# Altium integrated library recom-international.IntLib: 6 symbols
Pins are listed as number, name and electrical type; pins without a type are passive.

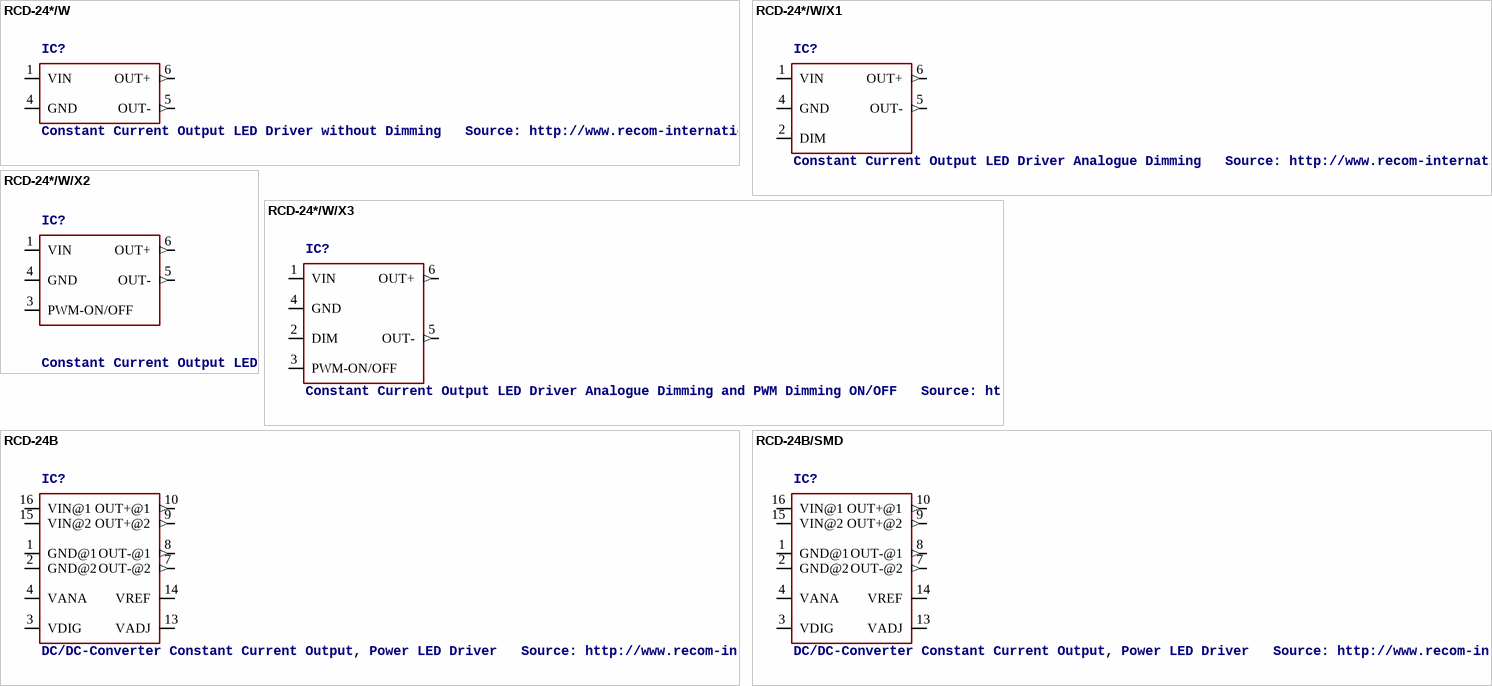
[diagram p0: symbols RCD-24*/W to RCD-24B/SMD]

## RCD-24*/W
designator IC?, comment Constant Current Output LED Driver without Dimming   Source: http://www.recom-international.de/pdf/Innoline/RCD-24.pdf
OC_FARNELL: unknown; OC_NEWARK: unknown
footprint RCD-24/W
pins: 1 VIN, 4 GND (power), 5 OUT- (out), 6 OUT+ (out)

## RCD-24*/W/X1
designator IC?, comment Constant Current Output LED Driver Analogue Dimming   Source: http://www.recom-international.de/pdf/Innoline/RCD-24.pdf
OC_FARNELL: unknown; OC_NEWARK: unknown
footprint RCD-24/W/X1
pins: 1 VIN, 2 DIM, 4 GND (power), 5 OUT- (out), 6 OUT+ (out)

## RCD-24*/W/X2
designator IC?, comment Constant Current Output LED Driver PWM ON/OFF   Source: http://www.recom-international.de/pdf/Innoline/RCD-24.pdf
OC_FARNELL: unknown; OC_NEWARK: unknown
footprint RCD-24/W/X2
pins: 1 VIN, 3 PWM-ON/OFF, 4 GND (power), 5 OUT- (out), 6 OUT+ (out)

## RCD-24*/W/X3
designator IC?, comment Constant Current Output LED Driver Analogue Dimming and PWM Dimming ON/OFF   Source: http://www.recom-international.de/pdf/Innoline/RCD-24.pdf
OC_FARNELL: unknown; OC_NEWARK: unknown
footprint RCD-24/W/X3
pins: 1 VIN, 2 DIM, 3 PWM-ON/OFF, 4 GND (power), 5 OUT- (out), 6 OUT+ (out)

## RCD-24B
designator IC?, comment DC/DC-Converter Constant Current Output, Power LED Driver   Source: http://www.recom-international.de/pdf/Innoline/RCD-24B.pdf
OC_FARNELL: unknown; OC_NEWARK: unknown
footprint RCD-24B-DIL
pins: 1 GND@1 (power), 2 GND@2 (power), 3 VDIG, 4 VANA, 7 OUT-@2 (out), 8 OUT-@1 (out), 9 OUT+@2 (out), 10 OUT+@1 (out), 13 VADJ, 14 VREF, 15 VIN@2, 16 VIN@1

## RCD-24B/SMD
designator IC?, comment DC/DC-Converter Constant Current Output, Power LED Driver   Source: http://www.recom-international.de/pdf/Innoline/RCD-24B.pdf
OC_FARNELL: unknown; OC_NEWARK: unknown
footprint RCD-24B-SMD
pins: 1 GND@1 (power), 2 GND@2 (power), 3 VDIG, 4 VANA, 7 OUT-@2 (out), 8 OUT-@1 (out), 9 OUT+@2 (out), 10 OUT+@1 (out), 13 VADJ, 14 VREF, 15 VIN@2, 16 VIN@1